# Altium schematic symbol library 575-4.SchLib: 1 symbol
Pins are listed as number, name and electrical type; pins without a type are passive.

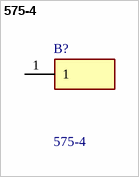
[diagram p0: symbol 575-4]

## 575-4
designator B?
Test Plugs & Test Jacks NON-INSUL JACK .218" BRASS NICKEL PLTD; Manufacturer_Name: Keystone Electronics; Geometry.Height: 2.49mm; Mouser Part Number: 534-575-4; Mouser Price/Stock: https://www.mouser.co.uk/ProductDetail/Keystone-Electronics/575-4?qs=w4ABFRoM%2FL8pPaUzIDyX8Q%3D%3D; Manufacturer_Part_Number: 575-4; Datasheet Link: https://www.keyelco.com/product.cfm/product_id/2379
footprint 5754
pins: 1